# Altium schematic symbol library Adafruit CLUE nRF52840 Express.SCHLIB: 34 symbols
Pins are listed as number, name and electrical type; pins without a type are passive.

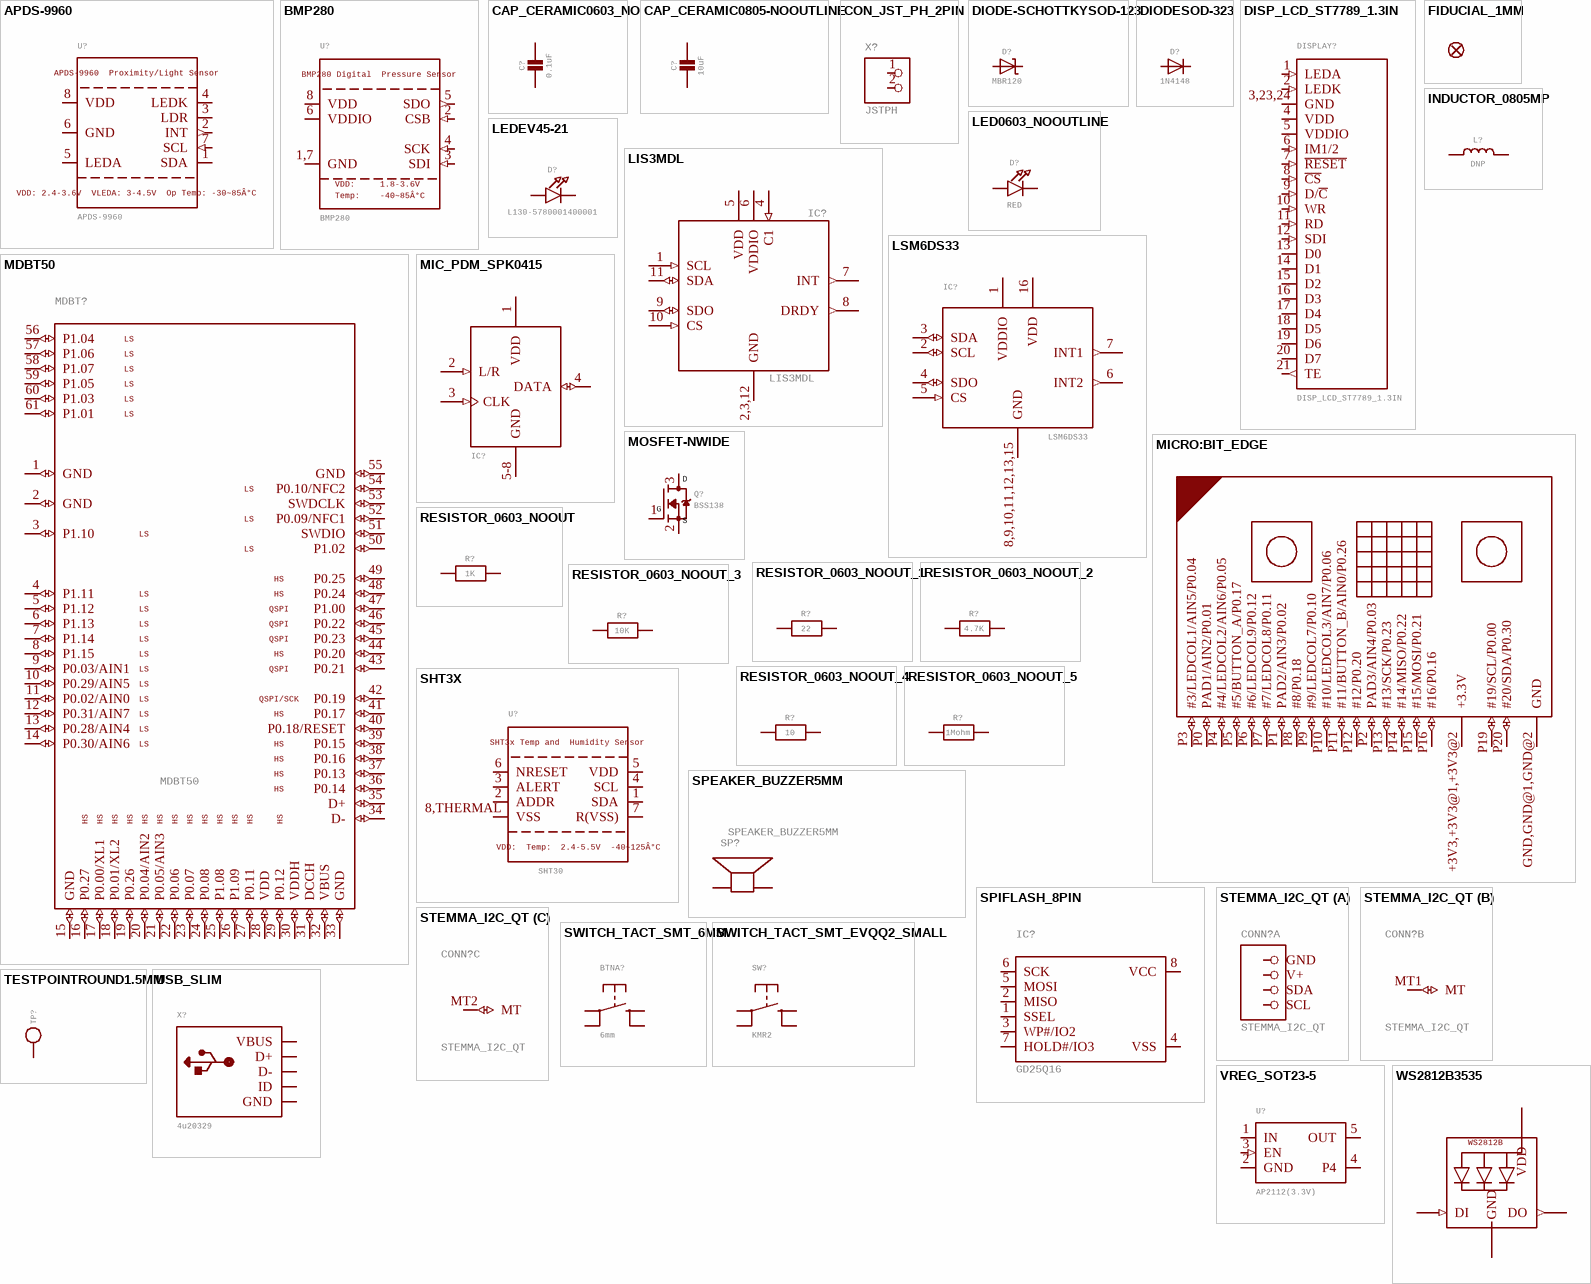
[diagram p0: symbols APDS-9960 to WS2812B3535]

## APDS-9960
designator U?  APDS-9960
Proximity/LightSensor: APDS-9960 / Proximity/Light Sensor  VDD:2.4-3.6V
VLEDA:3-4.5V
OpTemp:-30~85Â°C: VDD: 2.4-3.6V / VLEDA: 3-4.5V / Op Temp: -30~85Â°C
APDS-9960 - Digital Proximity Sensor with Ambient Light/RGB/Gesture Detection; GateName_1: G$1; SymbolName_1: APDS-9960; LibraryName: adafruit_sensor; DeviceSetName: APDS-9960
footprint APDS-9960
pins: 1 SDA (io), 2 INT (out), 3 LDR (io), 4 LEDK (io), 5 LEDA (power), 6 GND (power), 7 SCL (in), 8 VDD (power)

## BMP280
designator U?  BMP280Digital
PressureSensor: BMP280 Digital / Pressure Sensor  VDD: VDD:  Temp: Temp:
BMP280 - Digital Pressure Sensor    Operating Pressure Range: 300-1100 hPa  Pressure Resolution: 0.16Pa  RMS Noise: 1.3Pa  Temperature Resolution: 0.01 C; GateName_1: G$1; SymbolName_1: BMP280; LibraryName: adafruit_sensor; DeviceSetName: BMP280; 1.8-3.6V: 1.8-3.6V; -40~85Â°C: -40~85Â°C
footprint BMP280
pins: 1,7 GND (power), 2 CSB (in), 3 SDI (in), 4 SCK (in), 5 SDO (out), 6 VDDIO (power), 8 VDD (power)

## CAP_CERAMIC0603_NO
designator C?, comment 0.1uF
Ceramic Capacitors   For new designs, use the packages preceded by an '_' character since they are more reliable:   The following footprints should be used on most boards: _0402 - Standard footprint for regular board layouts  _0603 - Standard footprint for regular board layouts  _0805 - Standard footprint for regular board layouts  _1206 - Standard footprint for regular board layouts       For extremely tight-pitch boards where space is at a premium, the following 'micro-pitch' footprints can be used (smaller pads, no silkscreen outline, etc.): _0402MP - Micro-pitch footprint for very dense/compact boards  _0603MP - Micro-pitch footprint for very dense/compact boards  _0805MP - Micro-pitch footprint for very dense/compact boards  _1206MP - Micro-pitch footprint for very dense/compact boards; GateName_1: G$1; DeviceName: 0603_NO; DeviceSetName: CAP_CERAMIC; SymbolName_1: CAPACITOR; LibraryName: microbuilder
footprint 0603-NO
pins: 1, 2

## CAP_CERAMIC0805-NOOUTLINE
designator C?, comment 10uF
Ceramic Capacitors   For new designs, use the packages preceded by an '_' character since they are more reliable:   The following footprints should be used on most boards: _0402 - Standard footprint for regular board layouts  _0603 - Standard footprint for regular board layouts  _0805 - Standard footprint for regular board layouts  _1206 - Standard footprint for regular board layouts       For extremely tight-pitch boards where space is at a premium, the following 'micro-pitch' footprints can be used (smaller pads, no silkscreen outline, etc.): _0402MP - Micro-pitch footprint for very dense/compact boards  _0603MP - Micro-pitch footprint for very dense/compact boards  _0805MP - Micro-pitch footprint for very dense/compact boards  _1206MP - Micro-pitch footprint for very dense/compact boards; GateName_1: G$1; DeviceName: 0805-NOOUTLINE; DeviceSetName: CAP_CERAMIC; SymbolName_1: CAPACITOR; LibraryName: microbuilder
footprint 0805-NO
pins: 1, 2

## CON_JST_PH_2PIN
designator X?, comment JSTPH
JST 2-Pin Right-Angle Connector  PH-Series - 4UConnector: 17311  SH-Series - 4UConnector: 07278; GateName_1: G$1; SymbolName_1: PINHD2; DeviceSetName: CON_JST_PH_2PIN; LibraryName: microbuilder
footprint JSTPH2
pins: 1, 2

## DIODE-SCHOTTKYSOD-123
designator D?, comment MBR120
GateName_1: G$1; SymbolName_1: DIODE-SCHOTTKY; DeviceName: SOD-123; LibraryName: microbuilder; DeviceSetName: DIODE-SCHOTTKY
footprint SOD-123
pins: A, C

## DIODESOD-323
designator D?, comment 1N4148
Diode    SMA      Model	  Volts	  Amps	  Type	  Vf	  Ir	  Digikey #	  Notes	     SSA34-E3	  40V	  3A	  Schottky	  480mV @ 3A	  200uA @ 40V	  SSA34-E3/61TGITR-ND	  	     CDBA120-G	  20V	  1A	  Schottky	  500mV @ 1A	  500uA @ 20V	  641-1014-6-ND	  REEL	     MBRA210	  10V	  2A	  Schottky	  350mV @ 2A	  700uA @ 10V	  MBRA210LT3	  	 SOD-123      Model	  Volts	  Amps	  Type	  Vf	  Ir	  Order #	  Notes	     BAT54T1G	  30V	  200mA	  Schottky	  800mV @ 200mA	  2uA @ 25V	  BAT54T1GOSTR-ND	  	     B0530W	  30V	  500mA	  Schottky	  430mV @ 500mA	  130uA @ 30V	  B0530W-FDICT-ND	  REEL	     MBR120	  20V	  1A	  Schottky	  340mV @ 1A	  	  MBR120VLSFT1GOSCT-ND	  	 SOD-323      Model	  Volts	  Amps	  Type	  Vf	  Ir	  Order #	  Notes	     PMEG2005EJ	  20V	  500mA	  Schottky	  355mV @ 500mA	  	  568-4110-1-ND	  	     ZLLS410	  10V	  570mA	  Schottky	  380mV @ 570mA	  	  ZLLS410CT-ND	  	     1N4148WS	  75V	  150mA	  Silicon/Simple	  1V	  	  1N4148WSFSCT-ND	  REEL	 SOD-523      Model	  Volts	  Amps	  Type	  Vf	  Ir	  Order #	  Notes	     BAT54XV2	  30V	  200mA	  Schottky	  0.8V @ 100mA	  	  BAT54XV2CT-ND	  	     TB751S	  30V	  30mA	  Schottky	  	  	  RB751S-40TE61CT-ND	  	 SOT23-R/W (R = Solder Paste/Reflow Ovens, W = Hand-Soldering)       Model	  Volts	  Amps	  Type	  Vf	  Ir	  Order #	  Notes	     BAT54FILM	  40V	  300mA	  Schottky	  	  	  497-7162-1-ND	  	 POWERDI-5       Model	  Volts	  Amps	  Type	  Vf	  Ir	  Order #	  Notes	     PDS560	  60V	  5A	  Schottky	  670mV @ 5A	  150uA @ 60V	  PDS560DICT-ND; GateName_1: G$1; SymbolName_1: DIODE; DeviceName: SOD-323; LibraryName: microbuilder; DeviceSetName: DIODE
footprint SOD-323
pins: A, C

## DISP_LCD_ST7789_1.3IN
designator DISPLAY?
GateName_1: G$1; SymbolName_1: TFT_1.3IN_240X240; LibraryName: adafruit_display; DeviceSetName: DISP_LCD_ST7789_1.3IN
footprint TFT_1.3IN_240X240_24P
pins: 1 LEDA (in), 2 LEDK (in), 3,23,24 GND (power), 4 VDD (power), 5 VDDIO (power), 6 IM1/2 (in), 7 ~{RESET} (in), 8 ~{CS} (in), 9 D/~{C} (in), 10 WR (in), 11 RD (in), 12 SDI (in), 13 D0 (io), 14 D1 (io), 15 D2 (io), 16 D3 (io), 17 D4 (io), 18 D5 (io), 19 D6 (io), 20 D7 (io), 21 TE (out)

## FIDUCIAL_1MM
designator FID?  (value not drawn)
Fiducial Alignment Points   Various fiducial points for machine vision alignment.; GateName_1: G$1; DeviceName: _1MM; BOM: EXCLUDE; SymbolName_1: FIDUCIAL; LibraryName: microbuilder; DeviceSetName: FIDUCIAL
footprint FIDUCIAL_1MM

## INDUCTOR_0805MP
designator L?, comment DNP
Inductors   0603: 10nH Ceramic Inductor - microwire antenna/RF (Digikey: 712-1434-2-ND)       0805: 560nH Ceramic Inductor - RF (Digikey: 553-1047-1-ND)  270nH Ceramic Inductor - Q = 40@250MHz, +-5%, 1 Ohm DC Resistance (Digikey: 535-10506-2-ND)       1007 (2518 Metric) SMT: 10ÂµH 10% 250mOhm 820mA 1007 Inductor (Digikey: 587-2189-1-ND)  22ÂµH 10% 500mOhm 580mA 1007 Inductor (Digikey: 587-2190-1-ND)  47ÂµH 10% 950mOhm 420mA 1007 Inductor (Digikey: 587-2191-1-ND)  47ÂµH 5% 100mOhm 1A 1008 Inductor (Digikey: 732-1816-1-ND)       5.0x5.0mm (Taiyo Yuden NR5040 Series) 6.8ÂµH 20% 2.3A 64mOhm Inductor (Digikey: 587-2374-2-ND)       5.0x5.0mm (TDK VLC5045 Series) 4.7ÂµH 20% 3.3A 34mOhm Inductor (Digikey: 445-6526-1-ND)  6.8ÂµH 20% 2.7A 46mOhm Inductor (Digikey: 445-6527-1-ND)       6.0x6.0mm (TDK VLC6045 Series) 4.7ÂµH 20% 3.8A 27mOhm Inductor (Digikey: 445-6538-2-ND)  6.8ÂµH 20% 3A 41mOhm Inductor (Digikey: 445-6540-1-ND)  6.2ÂµH 30% 2.2A 45mOhm Inductor (Digikey: SRR5028-6R2YCT-ND) - Not TDK VLC6045 but footprint should match       6.0x6.0mm (TDK SLF6045 Series) 6.8uH 30% 2A 33mOhm Inductor (Digikey: 445-4572-1-ND, Mouser: 810-SLF645T6R8N2R0PF)       6.0x6.0mm (Sumida CDRH5D28 Series) 6.2uH 30% 1.8A 45mOhm Inductor (Digikey: 308-1542-1-ND)       Taiyo Yuden NR3015T2R2M - 2.2uH 20% 1.5A (Digikey: 587-1648-2-ND, Mouser: 963-NR3015T2R2M) - Used with TI TPS62172   CoilCraft RFID Transponder Coil - MA5532-AE (For use with AS3935 Lightning Sensor)   Taiyo Yuden NRH2412T2R2MNGH - 2.2uH 20% 1AA (Digikey: 587-3443-1-ND) - Used with TI LM3671   Vishay IHLP  1.0uH Molded Inductor - 24mOhm DCR, 5A, +/-20%, -55Â°C-125Â°C (Digikey: 541-1319-1-ND); GateName_1: G$1; DeviceName: _0805MP; SymbolName_1: INDUCTOR; LibraryName: microbuilder; DeviceSetName: INDUCTOR
footprint _0805MP
pins: 1, 2

## LED0603_NOOUTLINE
designator D?, comment RED
LED0603 - 0603 Surface Mount Package    2mA: Green LED - Low Power (3.9mcd, 2ma, 1.7Vf) - Digikey: 475-2709-2-ND  Orange LED - Low Power (9.8mcd, 2ma, 1.8Vf) - Digikey: 475-1194-2-ND  Red LED - Low Power (5mcd, 2ma, 1.8Vf) - Digikey: 475-1195-2-ND  Yellow LED - Low Power (7mcd, 2ma, 1.8Vf) - Digikey: 475-1196-2-ND       5mA: Blue LED - Low Power (17mcd, 5ma, 2.9Vf) - Digikey: LNJ937W8CRACT-ND    0805 - 0805 Surface Mount Package    2mA: Red LED (8.8mcd, 2mA, 1.8Vf, Clear) - Low Power [Digikey: 475-2510-1-ND]  Green LED (5mcd, 2mA, 1.8Vf, Clear) - Low Power [Digikey: 475-2730-1-ND]  Yellow LED (11.3mcd, 2mA, 1.8Vf, Clear) - Low Power [Digikey: 475-2555-1-ND]       20mA: Red LED (104mcd, 20mA, Diffused) - LS R976 [Digikey: 475-1278-6-ND]  Red LED (12mcd, 20mA, 2.0Vf, Clear) - APT2012EC [Digikey: 754-1128-1-ND]  Green LED (15mcd, 20mA, 2.2Vf, Clear) - APT2012GC [Digikey: 754-1131-1-ND]  Orange LED (160mcd, 20mA, 2.1Vf, Clear) - APT2012SECK [Digikey: 754-1130-1-ND]     1206 - 1206 Surface Mount Package  Green LED (26mcd, 20mA, Diffused) - LG N971  [Digikey: 475-1407-6-ND]  Red LED (15mcd, 20mA, Diffused) - LH N974 [Digikey: 475-1416-6-ND]     Cree - Cree High-Power Surface Mount LEDs  XPEBWT-L1-0000-00D50 - White 111lm 350mA 2.9Vf 6200K 110Â°  XTEAWT-00-0000-00000LEE3 - White 114lm 350mA 2.85Vf 5000K 115Â°     Everlight - Everlight 45-21 Series Surface Mount LEDs  45-21/QK2C-B2832AC2CB2/2T - Warm White 2000mcd 20mA 3.25Vf 3050K 120Â°  45-21/LK2C-B38452C4CB2/2T - Nuetral White 2000mcd 20mA 3.25Vf 4150K 120Â°  45-21/LK2C-B50634C6CB2/2T - Cold White 2200mcd 20mA 3.25Vf 5650K 120Â°     PLCC2 Reverse Mount LS T77K-J1L2-1-0-2-R18-Z - Red 11.25mcd 2mA 1.8Vf 630nm 120Â°  LO T77K-L1M2-24-Z - Orange 19.6mcd 2mA 1.8Vf 606nm 120Â°  LY T77K-K2M1-26-Z - Yellow 15.7mcd 2mA 1.8Vf 587nm 120Â°; GateName_1: G$1; DeviceName: 0603_NOOUTLINE; SymbolName_1: LED; LibraryName: microbuilder; DeviceSetName: LED
footprint CHIPLED_0603_NOOUTLINE
pins: A, C

## LEDEV45-21
designator D?, comment L130-5780001400001
LED0603 - 0603 Surface Mount Package    2mA: Green LED - Low Power (3.9mcd, 2ma, 1.7Vf) - Digikey: 475-2709-2-ND  Orange LED - Low Power (9.8mcd, 2ma, 1.8Vf) - Digikey: 475-1194-2-ND  Red LED - Low Power (5mcd, 2ma, 1.8Vf) - Digikey: 475-1195-2-ND  Yellow LED - Low Power (7mcd, 2ma, 1.8Vf) - Digikey: 475-1196-2-ND       5mA: Blue LED - Low Power (17mcd, 5ma, 2.9Vf) - Digikey: LNJ937W8CRACT-ND    0805 - 0805 Surface Mount Package    2mA: Red LED (8.8mcd, 2mA, 1.8Vf, Clear) - Low Power [Digikey: 475-2510-1-ND]  Green LED (5mcd, 2mA, 1.8Vf, Clear) - Low Power [Digikey: 475-2730-1-ND]  Yellow LED (11.3mcd, 2mA, 1.8Vf, Clear) - Low Power [Digikey: 475-2555-1-ND]       20mA: Red LED (104mcd, 20mA, Diffused) - LS R976 [Digikey: 475-1278-6-ND]  Red LED (12mcd, 20mA, 2.0Vf, Clear) - APT2012EC [Digikey: 754-1128-1-ND]  Green LED (15mcd, 20mA, 2.2Vf, Clear) - APT2012GC [Digikey: 754-1131-1-ND]  Orange LED (160mcd, 20mA, 2.1Vf, Clear) - APT2012SECK [Digikey: 754-1130-1-ND]     1206 - 1206 Surface Mount Package  Green LED (26mcd, 20mA, Diffused) - LG N971  [Digikey: 475-1407-6-ND]  Red LED (15mcd, 20mA, Diffused) - LH N974 [Digikey: 475-1416-6-ND]     Cree - Cree High-Power Surface Mount LEDs  XPEBWT-L1-0000-00D50 - White 111lm 350mA 2.9Vf 6200K 110Â°  XTEAWT-00-0000-00000LEE3 - White 114lm 350mA 2.85Vf 5000K 115Â°     Everlight - Everlight 45-21 Series Surface Mount LEDs  45-21/QK2C-B2832AC2CB2/2T - Warm White 2000mcd 20mA 3.25Vf 3050K 120Â°  45-21/LK2C-B38452C4CB2/2T - Nuetral White 2000mcd 20mA 3.25Vf 4150K 120Â°  45-21/LK2C-B50634C6CB2/2T - Cold White 2200mcd 20mA 3.25Vf 5650K 120Â°     PLCC2 Reverse Mount LS T77K-J1L2-1-0-2-R18-Z - Red 11.25mcd 2mA 1.8Vf 630nm 120Â°  LO T77K-L1M2-24-Z - Orange 19.6mcd 2mA 1.8Vf 606nm 120Â°  LY T77K-K2M1-26-Z - Yellow 15.7mcd 2mA 1.8Vf 587nm 120Â°; GateName_1: G$1; DeviceName: EV45-21; SymbolName_1: LED; LibraryName: microbuilder; DeviceSetName: LED
footprint EVERLIGHT_45-21
pins: A, K C

## LIS3MDL
designator IC?
Digital output magnetic sensor. ultra-low-power, high-performance 3-axis magnetometer; GateName_1: G$1; SymbolName_1: LIS3MDL; LibraryName: adafruit_sensor; DeviceSetName: LIS3MDL; LIS3MDL: LIS3MDL
footprint LGA12_2X2MM
pins: 1 SCL (in), 2,3,12 GND (power), 4 C1 (in), 5 VDD (power), 6 VDDIO (power), 7 INT (out), 8 DRDY (out), 9 SDO (io), 10 CS (in), 11 SDA (io)

## LSM6DS33
designator IC?
GateName_1: G$1; SymbolName_1: LSM6DS33; LibraryName: adafruit_sensor; DeviceSetName: LSM6DS33; LSM6DS33: LSM6DS33
footprint LGA16_3X3MM
pins: 1 VDDIO (power), 2 SCL (io), 3 SDA (io), 4 SDO (io), 5 CS (in), 6 INT2 (out), 7 INT1 (out), 8,9,10,11,12,13,15 GND (power), 16 VDD (power)

## MDBT50
designator MDBT?
Raytac Corporation   MDBT50  Bluetooth Low Energy Module based on Noridc nRF52840    Source:  Raytac datasheet; GateName_1: G$1; SymbolName_1: MDBT50; LibraryName: microbuilder; DeviceSetName: MDBT50; LS: LS; HS: HS; QSPI: QSPI; QSPI/SCK: QSPI/SCK
footprint MDBT50
pins: 1 GND (io), 2 GND (io), 3 P1.10 (io), 4 P1.11 (io), 5 P1.12 (io), 6 P1.13 (io), 7 P1.14 (io), 8 P1.15 (io), 9 P0.03/AIN1 (io), 10 P0.29/AIN5 (io), 11 P0.02/AIN0 (io), 12 P0.31/AIN7 (io), 13 P0.28/AIN4 (io), 14 P0.30/AIN6 (io), 15 GND (io), 16 P0.27 (io), 17 P0.00/XL1 (io), 18 P0.01/XL2 (io), 19 P0.26 (io), 20 P0.04/AIN2 (io), 21 P0.05/AIN3 (io), 22 P0.06 (io), 23 P0.07 (io), 24 P0.08 (io), 25 P1.08 (io), 26 P1.09 (io), 27 P0.11 (io), 28 VDD (io), 29 P0.12 (io), 30 VDDH (io), 31 DCCH (io), 32 VBUS (io), 33 GND (io), 34 D- (io), 35 D+ (io), 36 P0.14 (io), 37 P0.13 (io), 38 P0.16 (io), 39 P0.15 (io), 40 P0.18/RESET (io), 41 P0.17 (io), 42 P0.19 (io), 43 P0.21 (io), 44 P0.20 (io), 45 P0.23 (io), 46 P0.22 (io), 47 P1.00 (io), 48 P0.24 (io), 49 P0.25 (io), 50 P1.02 (io), 51 SWDIO (io), 52 P0.09/NFC1 (io), 53 SWDCLK (io), 54 P0.10/NFC2 (io), 55 GND (io), 56 P1.04 (io), 57 P1.06 (io), 58 P1.07 (io), 59 P1.05 (io), 60 P1.03 (io), 61 P1.01 (io)

## MIC_PDM_SPK0415
designator IC?, comment MIC_PDM  (value not drawn)
GateName_1: G$1; DeviceName: _SPK0415; SymbolName_1: MIC_PDM; LibraryName: microbuilder; DeviceSetName: MIC_PDM
footprint SPK0415HM4H
pins: 1 VDD (power), 2 L/R (in), 3 CLK (in), 4 DATA (io), 5-8 GND (power)

## MICRO:BIT_EDGE
designator MB?  (value not drawn)
GateName_1: G$1; DeviceName: _EDGE; SymbolName_1: MICRO:BIT; LibraryName: adafruit_connector; DeviceSetName: MICRO:BIT
footprint MICROBIT_EDGE
pins: +3V3,+3V3@1,+3V3@2 +3.3V (power), GND,GND@1,GND@2 GND (power), P0 PAD1/AIN2/P0.01 (io), P1 PAD2/AIN3/P0.02 (io), P2 PAD3/AIN4/P0.03 (io), P3 #3/LEDCOL1/AIN5/P0.04 (io), P4 #4/LEDCOL2/AIN6/P0.05 (io), P5 #5/BUTTON_A/P0.17 (io), P6 #6/LEDCOL9/P0.12 (io), P7 #7/LEDCOL8/P0.11 (io), P8 #8/P0.18 (io), P9 #9/LEDCOL7/P0.10 (io), P10 #10/LEDCOL3/AIN7/P0.06 (io), P11 #11/BUTTON_B/AIN0/P0.26 (io), P12 #12/P0.20 (io), P13 #13/SCK/P0.23 (io), P14 #14/MISO/P0.22 (io), P15 #15/MOSI/P0.21 (io), P16 #16/P0.16 (io), P19 #19/SCL/P0.00 (io), P20 #20/SDA/P0.30 (io)

## MOSFET-NWIDE
designator Q?, comment BSS138
N-Channel Mosfet   LEGEND   VDS: Voltage Drain-Source ID: Drain Current RDS(ON): Drain-Source On-State Resistance VGS(TH): Gate-Source Threshold Voltage CISS: Drain-Source Input Capacitance    SOT-23   Name	VDS	ID	RDS(ON)	VGS(TH)	CISS	Order Number	   2N7002E	60V	260mA	2.5 Ohm	2.5V @ 250uA	26.7pF @ 25V	2N7002ET1GOSTR-ND	   BSH103	30V	850mA	400 mOhm	400mV @ 1mA	83pF @ 24V	BSH103,235-ND	   BSS138	60V	320mA	1.6 Ohm	1.5V @ 250uA	50pF @ 10V	Mouser: 771-BSS138PW115	   DMN2075U-7	20V	4.2A	38 mOhm	1V @ 250 uA	594.3pF @ 10V	DMN2075U-7DICT-ND	   							   * BSS138 good choice for I2C level-shifting   POWERPAK 1212-8   Name	VDS	ID	RDS(ON)	VGS(TH)	CISS	Order Number	   Si7308DN	60V	6A	58 mOhm	3V @ 250uA	665pF @ 15V	SI7308DN-T1-E3CT-ND; GateName_1: G$1; SymbolName_1: MOSFET-N; DeviceName: WIDE; LibraryName: microbuilder; DeviceSetName: MOSFET-N; D: D; S: S; G: G
footprint SOT23-WIDE
pins: 1 G (io), 2 S (io), 3 D (io)

## RESISTOR_0603_NOOUT
designator R?, comment 1K
Resistors   For new designs, use the packages preceded by an '_' character since they are more reliable:   The following footprints should be used on most boards: _0402 - Standard footprint for regular board layouts  _0603 - Standard footprint for regular board layouts  _0805 - Standard footprint for regular board layouts  _1206 - Standard footprint for regular board layouts       For extremely tight-pitch boards where space is at a premium, the following 'micro-pitch' footprints can be used (smaller pads, no silkscreen outline, etc.): _0402MP - Micro-pitch footprint for very dense/compact boards  _0603MP - Micro-pitch footprint for very dense/compact boards  _0805MP - Micro-pitch footprint for very dense/compact boards  _1206MP - Micro-pitch footprint for very dense/compact boards; GateName_1: G$1; DeviceName: _0603_NOOUT; SymbolName_1: RESISTOR; LibraryName: microbuilder; DeviceSetName: RESISTOR
footprint 0603-NO
pins: 1, 2

## RESISTOR_0603_NOOUT_1
designator R?, comment 22
Resistors   For new designs, use the packages preceded by an '_' character since they are more reliable:   The following footprints should be used on most boards: _0402 - Standard footprint for regular board layouts  _0603 - Standard footprint for regular board layouts  _0805 - Standard footprint for regular board layouts  _1206 - Standard footprint for regular board layouts       For extremely tight-pitch boards where space is at a premium, the following 'micro-pitch' footprints can be used (smaller pads, no silkscreen outline, etc.): _0402MP - Micro-pitch footprint for very dense/compact boards  _0603MP - Micro-pitch footprint for very dense/compact boards  _0805MP - Micro-pitch footprint for very dense/compact boards  _1206MP - Micro-pitch footprint for very dense/compact boards; GateName_1: G$1; DeviceName: _0603_NOOUT; SymbolName_1: RESISTOR; LibraryName: microbuilder; DeviceSetName: RESISTOR
footprint 0603-NO
pins: 1, 2

## RESISTOR_0603_NOOUT_2
designator R?, comment 4.7K
Resistors   For new designs, use the packages preceded by an '_' character since they are more reliable:   The following footprints should be used on most boards: _0402 - Standard footprint for regular board layouts  _0603 - Standard footprint for regular board layouts  _0805 - Standard footprint for regular board layouts  _1206 - Standard footprint for regular board layouts       For extremely tight-pitch boards where space is at a premium, the following 'micro-pitch' footprints can be used (smaller pads, no silkscreen outline, etc.): _0402MP - Micro-pitch footprint for very dense/compact boards  _0603MP - Micro-pitch footprint for very dense/compact boards  _0805MP - Micro-pitch footprint for very dense/compact boards  _1206MP - Micro-pitch footprint for very dense/compact boards; GateName_1: G$1; DeviceName: _0603_NOOUT; SymbolName_1: RESISTOR; LibraryName: microbuilder; DeviceSetName: RESISTOR
footprint 0603-NO
pins: 1, 2

## RESISTOR_0603_NOOUT_3
designator R?, comment 10K
Resistors   For new designs, use the packages preceded by an '_' character since they are more reliable:   The following footprints should be used on most boards: _0402 - Standard footprint for regular board layouts  _0603 - Standard footprint for regular board layouts  _0805 - Standard footprint for regular board layouts  _1206 - Standard footprint for regular board layouts       For extremely tight-pitch boards where space is at a premium, the following 'micro-pitch' footprints can be used (smaller pads, no silkscreen outline, etc.): _0402MP - Micro-pitch footprint for very dense/compact boards  _0603MP - Micro-pitch footprint for very dense/compact boards  _0805MP - Micro-pitch footprint for very dense/compact boards  _1206MP - Micro-pitch footprint for very dense/compact boards; GateName_1: G$1; DeviceName: _0603_NOOUT; SymbolName_1: RESISTOR; LibraryName: microbuilder; DeviceSetName: RESISTOR
footprint 0603-NO
pins: 1, 2

## RESISTOR_0603_NOOUT_4
designator R?, comment 10
Resistors   For new designs, use the packages preceded by an '_' character since they are more reliable:   The following footprints should be used on most boards: _0402 - Standard footprint for regular board layouts  _0603 - Standard footprint for regular board layouts  _0805 - Standard footprint for regular board layouts  _1206 - Standard footprint for regular board layouts       For extremely tight-pitch boards where space is at a premium, the following 'micro-pitch' footprints can be used (smaller pads, no silkscreen outline, etc.): _0402MP - Micro-pitch footprint for very dense/compact boards  _0603MP - Micro-pitch footprint for very dense/compact boards  _0805MP - Micro-pitch footprint for very dense/compact boards  _1206MP - Micro-pitch footprint for very dense/compact boards; GateName_1: G$1; DeviceName: _0603_NOOUT; SymbolName_1: RESISTOR; LibraryName: microbuilder; DeviceSetName: RESISTOR
footprint 0603-NO
pins: 1, 2

## RESISTOR_0603_NOOUT_5
designator R?, comment 1Mohm
Resistors   For new designs, use the packages preceded by an '_' character since they are more reliable:   The following footprints should be used on most boards: _0402 - Standard footprint for regular board layouts  _0603 - Standard footprint for regular board layouts  _0805 - Standard footprint for regular board layouts  _1206 - Standard footprint for regular board layouts       For extremely tight-pitch boards where space is at a premium, the following 'micro-pitch' footprints can be used (smaller pads, no silkscreen outline, etc.): _0402MP - Micro-pitch footprint for very dense/compact boards  _0603MP - Micro-pitch footprint for very dense/compact boards  _0805MP - Micro-pitch footprint for very dense/compact boards  _1206MP - Micro-pitch footprint for very dense/compact boards; GateName_1: G$1; DeviceName: _0603_NOOUT; SymbolName_1: RESISTOR; LibraryName: microbuilder; DeviceSetName: RESISTOR
footprint 0603-NO
pins: 1, 2

## SHT3X
designator U?, comment SHT30  SHT3xTempand
HumiditySensor: SHT3x Temp and / Humidity Sensor  VDD:
Temp: VDD: / Temp:  2.4-5.5V
-40~125Â°C: 2.4-5.5V / -40~125Â°C
SHT3x - Digital Temperature and Humidity Sensor    Supply Voltage: 2.4-5.5V  Humidity Accuracy: SHT30 = +/-3%RH, SHT31 = +/-2%RH  Temperature Sensor: -40~125Â°C (+/-0.3Â°C from 10-55C); GateName_1: G$1; SymbolName_1: SHT3X; LibraryName: microbuilder; DeviceSetName: SHT3X
footprint SHT3X
pins: 1 SDA (io), 2 ADDR (io), 3 ALERT (io), 4 SCL (io), 5 VDD (power), 6 NRESET (io), 7 R(VSS) (io), 8,THERMAL VSS (power)

## SPEAKER_BUZZER5MM
designator SP?
SPEAKER    Source: Buerklin   Added PS12 (for part # PS1240 piezo)    http://www.ladyada.net/library/pcb/eaglelibrary.html; GateName_1: S1; SymbolName_1: SP; DeviceName: _BUZZER5MM; LibraryName: microbuilder; DeviceSetName: SPEAKER
footprint BUZZER_SMT_5MM
pins: +, -

## SPIFLASH_8PIN
designator IC?, comment GD25Q16
SOIC8 SPI Flash   Be careful with the size since SOIC8 flash comes in several 'widths'   SOIC8 150 mil M25P16 - 16Mbit (2Mbit x 8) Serial Flash (75MHz SPI Bus), Supply: 2.7-3.6V  Digikey:  SOIC8 - M25P16-VMN6P-ND       SOIC8 208 mil W25Q16BVSSIG - 16Mbit (2Mbit x 8) Serial Flash (104MHz SPI Bus), Supply: 2.7-3.6V  Digikey:  SOIC8 - W25Q16BVSSIG-ND; GateName_1: G$1; DeviceSetName: SPIFLASH_8PIN; SymbolName_1: M25P16; LibraryName: microbuilder
footprint SOIC8_150MIL
pins: 1 SSEL (io), 2 MISO (io), 3 WP#/IO2 (io), 4 VSS (io), 5 MOSI (io), 6 SCK (io), 7 HOLD#/IO3 (io), 8 VCC (io)

## STEMMA_I2C_QT
designator CONN?
GateName_1: G$1; GateName_2: G$2; SymbolName_2: MOUNTING; GateName_3: G$3; DeviceName: _QT; SymbolName_1: STEMMA_I2C; SymbolName_3: MOUNTING; LibraryName: microbuilder; DeviceSetName: STEMMA_I2C
footprint JST_SH4
part A pins: 1 GND, 2 V+, 3 SDA, 4 SCL
part B pins: MT1 MT (io)
part C pins: MT2 MT (io)

## SWITCH_TACT_SMT_6MM
designator BTNA?, comment 6mm
SMT Tact Switches 6x6mm - Digikey: P12940SCT-ND  KMR2 (4.6x2.8mm) - Digikey: 401-1426-1-ND  EVQ-PQHB55 - Light Touch, 160GF (4.5x4.5mm) - Digikey: P8090SCT-ND  KMT0 - KMT021 NGJ LHS (etc.) IP68/Waterproof - Digikey: CKN10289CT-ND; GateName_1: G$1; SymbolName_1: BUTTON_4PIN; DeviceName: _6MM; DeviceSetName: SWITCH_TACT_SMT; LibraryName: microbuilder
footprint 6MMX6MM_TACTILE_SMT
pins: A P, A' P1, B S, B' S1

## SWITCH_TACT_SMT_EVQQ2_SMALL
designator SW?, comment KMR2
SMT Tact Switches 6x6mm - Digikey: P12940SCT-ND  KMR2 (4.6x2.8mm) - Digikey: 401-1426-1-ND  EVQ-PQHB55 - Light Touch, 160GF (4.5x4.5mm) - Digikey: P8090SCT-ND  KMT0 - KMT021 NGJ LHS (etc.) IP68/Waterproof - Digikey: CKN10289CT-ND; GateName_1: G$1; SymbolName_1: BUTTON_4PIN; DeviceName: _EVQQ2_SMALL; DeviceSetName: SWITCH_TACT_SMT; LibraryName: microbuilder
footprint EVQ-Q2_SMALLER
pins: A P, A' P1, B S, B' S1

## TESTPOINTROUND1.5MM
designator TP?  (value not drawn)
Test Point   Various test points for characterisation and PCB testing    TESTPOINT_SMT - Compact Surface Mount Test Point [Digikey: 5016KTR-ND]; GateName_1: G$1; SymbolName_1: TESTPOINT; DeviceName: ROUND1.5MM; LibraryName: microbuilder; DeviceSetName: TESTPOINT
footprint TESTPOINT_ROUND_1.5MM
pins: P$1 (io)

## USB_SLIM
designator X?, comment 4u20329
USB ConnectorsUSBMINIB - Surface Mount Female Mini-B USB Connector    4UConnector: 06564; GateName_1: G$1; DeviceName: _SLIM; SymbolName_1: USB; LibraryName: microbuilder; DeviceSetName: USB
footprint 4UCONN_20329_SLIM
pins: BASE@1,BASE@2,GND,SPRT@1,SPRT@2,SPRT@3,SPRT@4 GND (power), D+ (io), D- (io), ID (io), VBUS (power)

## VREG_SOT23-5
designator U?, comment AP2112(3.3V)
SOT23-5 Fixed Voltage Regulators      Part	Current Out	V Out	V In	V Dropout	Î¸JA (Â°C/W)	TJ (Â°C)	Digikey Part No.	     ADP121	  150mA	  3.3V	  3.4-5.5V	  0.09V @ 150mA	  --	  --	  ADP121-AUJZ33R7CT-ND	     ADP121	  150mA	  3.0V	  3.1-5.5V	  0.09V @ 150mA	  --	  --	  ADP121-AUJZ30R7CT-ND	     ADP122	  300mA	  3.3V	  3.4-5.5V	  0.085V @ 300mA	  --	  --	  ADP122AUJZ-3.3-R7CT-ND	     ADP1712	  300mA	  3.3V	  3.5-5.5V	  0.17V @ 300mA	  --	  --	  ADP1712AUJZ-3.3-R7TR-ND	     AP7311 (Low Cost)	  150mA	  3.3V	  3.5-6V	  0.15V @ 150mA	  --	  --	  AP7311-33WG-7DICT-ND	     LD39015M18R	  150mA	  1.8V	  1.9V-5.5V	  0.08V @ 100mA	  --	  --	  497-6977-1-ND	     LP2985A-33DBVR	  150mA	  3.3V	  3.3-16V	  0.28V @ 150mA	  206	  150	  296-18479-1-ND	     MCP1824T-3302E/OT	  300mA	  3.3V	  3.5V-6V	  0.2V @ 300mA	  --	  --	  MCP1824T-3302E/OTCT-ND	     MIC5205-2.5YM5 TR	  150mA	  2.5V	  2.7-16V	  0.165V @ 150mA	  --	  --	  576-1257-2-ND	     MIC5205-3.0YM5 TR	  150mA	  3.0V	  3.2V-16V	  0.165V @ 150mA	  --	  --	  576-1258-2-ND	     MIC5205-3.3YM5 TR	  150mA	  3.3V	  3.5V-16V	  0.165V @ 150mA	  --	  --	  576-1259-2-ND	     TPS780330220	  150mA	  3.3V+2.2V	  3.6-5.5V	  250mV Max	  --	  --	  296-23332-1-ND	     TDA3663/N1,135	  100mA	  3.3V	  3.5-45V	  0.18V @ 50mA	  --	  --	  568-5343-1-ND	     	  	  	  	  	  	  	  	     	  	  	  	  	  	  	  	   Max operating temp can be calculated using Î¸JA, TJ (max junction temperature), and power in watts.  Set the "Maximum Ambient Temperature" until it reaches TJ ("Max Junction Temperature"), which is the absolute limit for safe use of the regulator: Heat Sink Temperature Calculator   For example, With 12V source into a 3.3V LP2985 and a 30mA load, we are dissipating (12V-3.3V) * 0.03A = 0.261W.  With a Î¸JA of 206 Â°C/W, a TJ of 150Â°C, and 261mW we can safely use the chip without a heat sink up to 75Â°C (=147.1Â°C Junction Temperature).; GateName_1: G$1; SymbolName_1: VREG_SOT23-5; LibraryName: microbuilder; DeviceSetName: VREG_SOT23-5
footprint SOT23-5
pins: 1 IN (power), 2 GND (power), 3 EN (in), 4 P4 (io), 5 OUT (power)

## WS2812B3535
designator LED?  (value not drawn)
GateName_1: G$1; SymbolName_1: WS2812BLED; DeviceName: 3535; LibraryName: microbuilder; DeviceSetName: WS2812B; WS2812B: WS2812B
footprint LED3535
pins: 1 DI (in), 2 VDD (power), 3 DO (out), 4 GND (power)